# Altium schematic symbol library MCP2515-E_SO.SchLib: 1 symbol
Pins are listed as number, name and electrical type; pins without a type are passive.

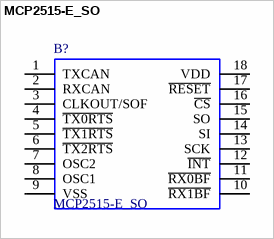
[diagram p0: symbol MCP2515-E_SO]

## MCP2515-E_SO
designator B?
CAN Controller with SPI,MCP2515-E/SO; Manufacturer_Name: Microchip; Allied_Number: 70413818; Geometry.Height: 2.65mm; Manufacturer_Part_Number: MCP2515-E/SO; RS Part Number: 6665739; RS Price/Stock: http://uk.rs-online.com/web/p/products/6665739; Allied Price/Stock: http://www.alliedelec.com/microchip-technology-inc-mcp2515-e-so/70413818/; Arrow Part Number: MCP2515-E/SO; Arrow Price/Stock: https://www.arrow.com/en/products/mcp2515-eso/microchip-technology; Datasheet Link: http://ww1.microchip.com/downloads/en/DeviceDoc/21801G.pdf
footprint SOIC127P1030X265-18N
pins: 1 TXCAN, 2 RXCAN, 3 CLKOUT/SOF, 4 ~{TX0RTS}, 5 ~{TX1RTS}, 6 ~{TX2RTS}, 7 OSC2, 8 OSC1, 9 VSS, 10 ~{RX1BF}, 11 ~{RX0BF}, 12 ~{INT}, 13 SCK, 14 SI, 15 SO, 16 ~{CS}, 17 ~{RESET}, 18 VDD (power)